# EAGLE library part MAX7219 (library Device-IPC7351C)
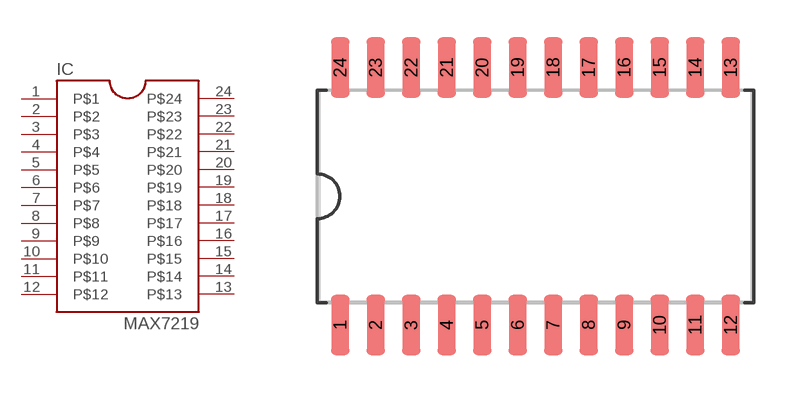
[diagram p3: symbol with the pads of SOIC24P127_1540X1032X265L83X42N; footprint SOIC24P127_1540X1032X265L83X42N]

Designator prefix IC

## MAX7219EWG  [SOIC24P127_1540X1032X265L83X42N]
1  P$1
2  P$2
3  P$3
4  P$4
5  P$5
6  P$6
7  P$7
8  P$8
9  P$9
10  P$10
11  P$11
12  P$12
13  P$13
14  P$14
15  P$15
16  P$16
17  P$17
18  P$18
19  P$19
20  P$20
21  P$21
22  P$22
23  P$23
24  P$24

## Footprint SOIC24P127_1540X1032X265L83X42N (pad centres in mm)
MAX7219/MAX7221 SOIC-24 Small Outline IC (SOIC), 1.27 mm pitch; 24 pin, 15.40 mm L X 7.50 mm W X 2.65 mm H body PCB Libraries Packages
smd 0.65 x 2.15: 1 -6.985,-4.605; 2 -5.715,-4.605; 3 -4.445,-4.605; 4 -3.175,-4.605; 5 -1.905,-4.605; 6 -0.635,-4.605; 7 0.635,-4.605; 8 1.905,-4.605; 9 3.175,-4.605; 10 4.445,-4.605; 11 5.715,-4.605; 12 6.985,-4.605; 13 6.985,4.605; 14 5.715,4.605; 15 4.445,4.605; 16 3.175,4.605; 17 1.905,4.605; 18 0.635,4.605; 19 -0.635,4.605; 20 -1.905,4.605; 21 -3.175,4.605; 22 -4.445,4.605; 23 -5.715,4.605; 24 -6.985,4.605